# Altium footprint library TLV271IDR.PcbLib: 1 footprints
Each footprint in its own frame and in the unit in brackets; x right, y up, seen from the top. Pads: shape width x height; smd on the part's side, far side on the other; paste and mask are expansions set on the pad; w line width, h text height; cw(c..) or ccw(c..) is an arc to the next point about the centre after c.
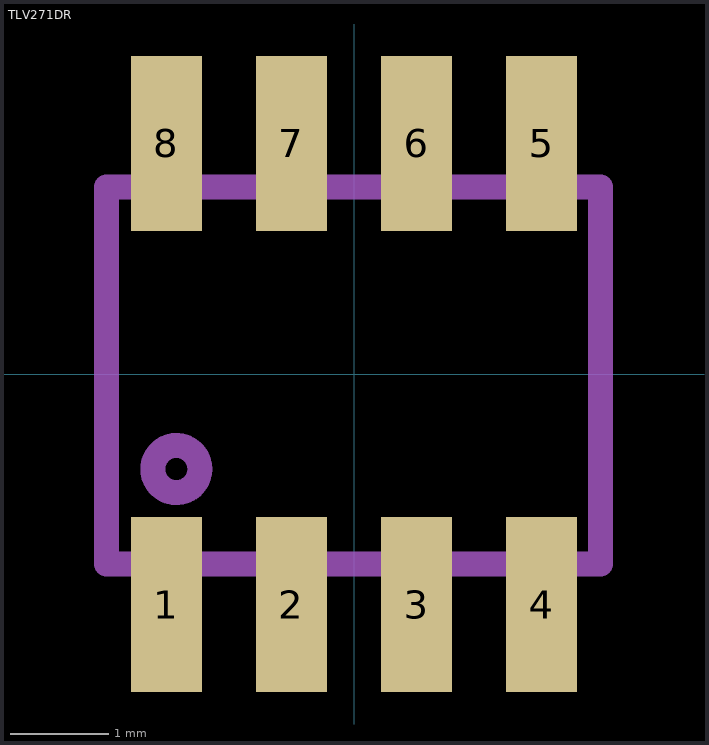
[diagram p0: the footprint, top view; thin cyan lines are the x and y axes]

## TLV271DR [mm]
pads (8):
  rect 0.72x1.78 smd: 1(-1.905,-2.34) 2(-0.635,-2.34) 3(0.635,-2.34) 4(1.905,-2.34) 5(1.905,2.34) 6(0.635,2.34) 7(-0.635,2.34) 8(-1.905,2.34)
Mechanical 1:
  circle w0.254: c-1.803,-0.965 r0.24
  lines w0.254: 2.5,1.9 2.5,-1.93 -2.515,-1.93 -2.515,1.9 -2.5,1.9 2.5,1.9 ; 2.5,1.9 2.5,1.9